# EAGLE library part HCNW4562#300 (library Traficon)
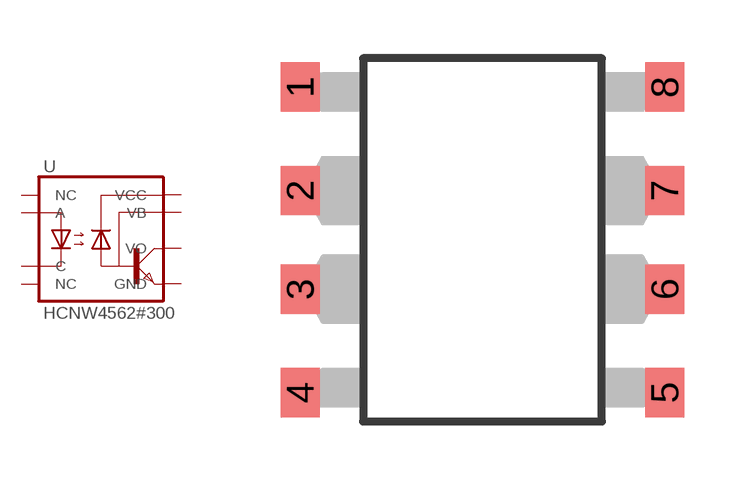
[diagram p140: symbol with the pads of SO8-GW300; footprint SO8-GW300]

Designator prefix U

## HCNW4562#300  [SO8-GW300]
1  NC  nc
2  A  pas
3  C  pas
4  NC  nc
5  GND  pwr
6  VO  pas
7  VB  in
8  VCC  pwr

## Footprint SO8-GW300 (pad centres in mm)
HCPL-772X Package witch Gull Wing Surface Mount Option 300 Source: HCPL7221.pdf
smd 1 x 1.27: 1 -4.69,3.937; 2 -4.69,1.27; 3 -4.69,-1.27; 4 -4.69,-3.937; 5 4.69,-3.937; 6 4.69,-1.27; 7 4.69,1.27; 8 4.69,3.937